# Altium integrated library Analog Devices Data Converters Analog-to-Digital Converters.IntLib: 2404 symbols (part 326 of 346)
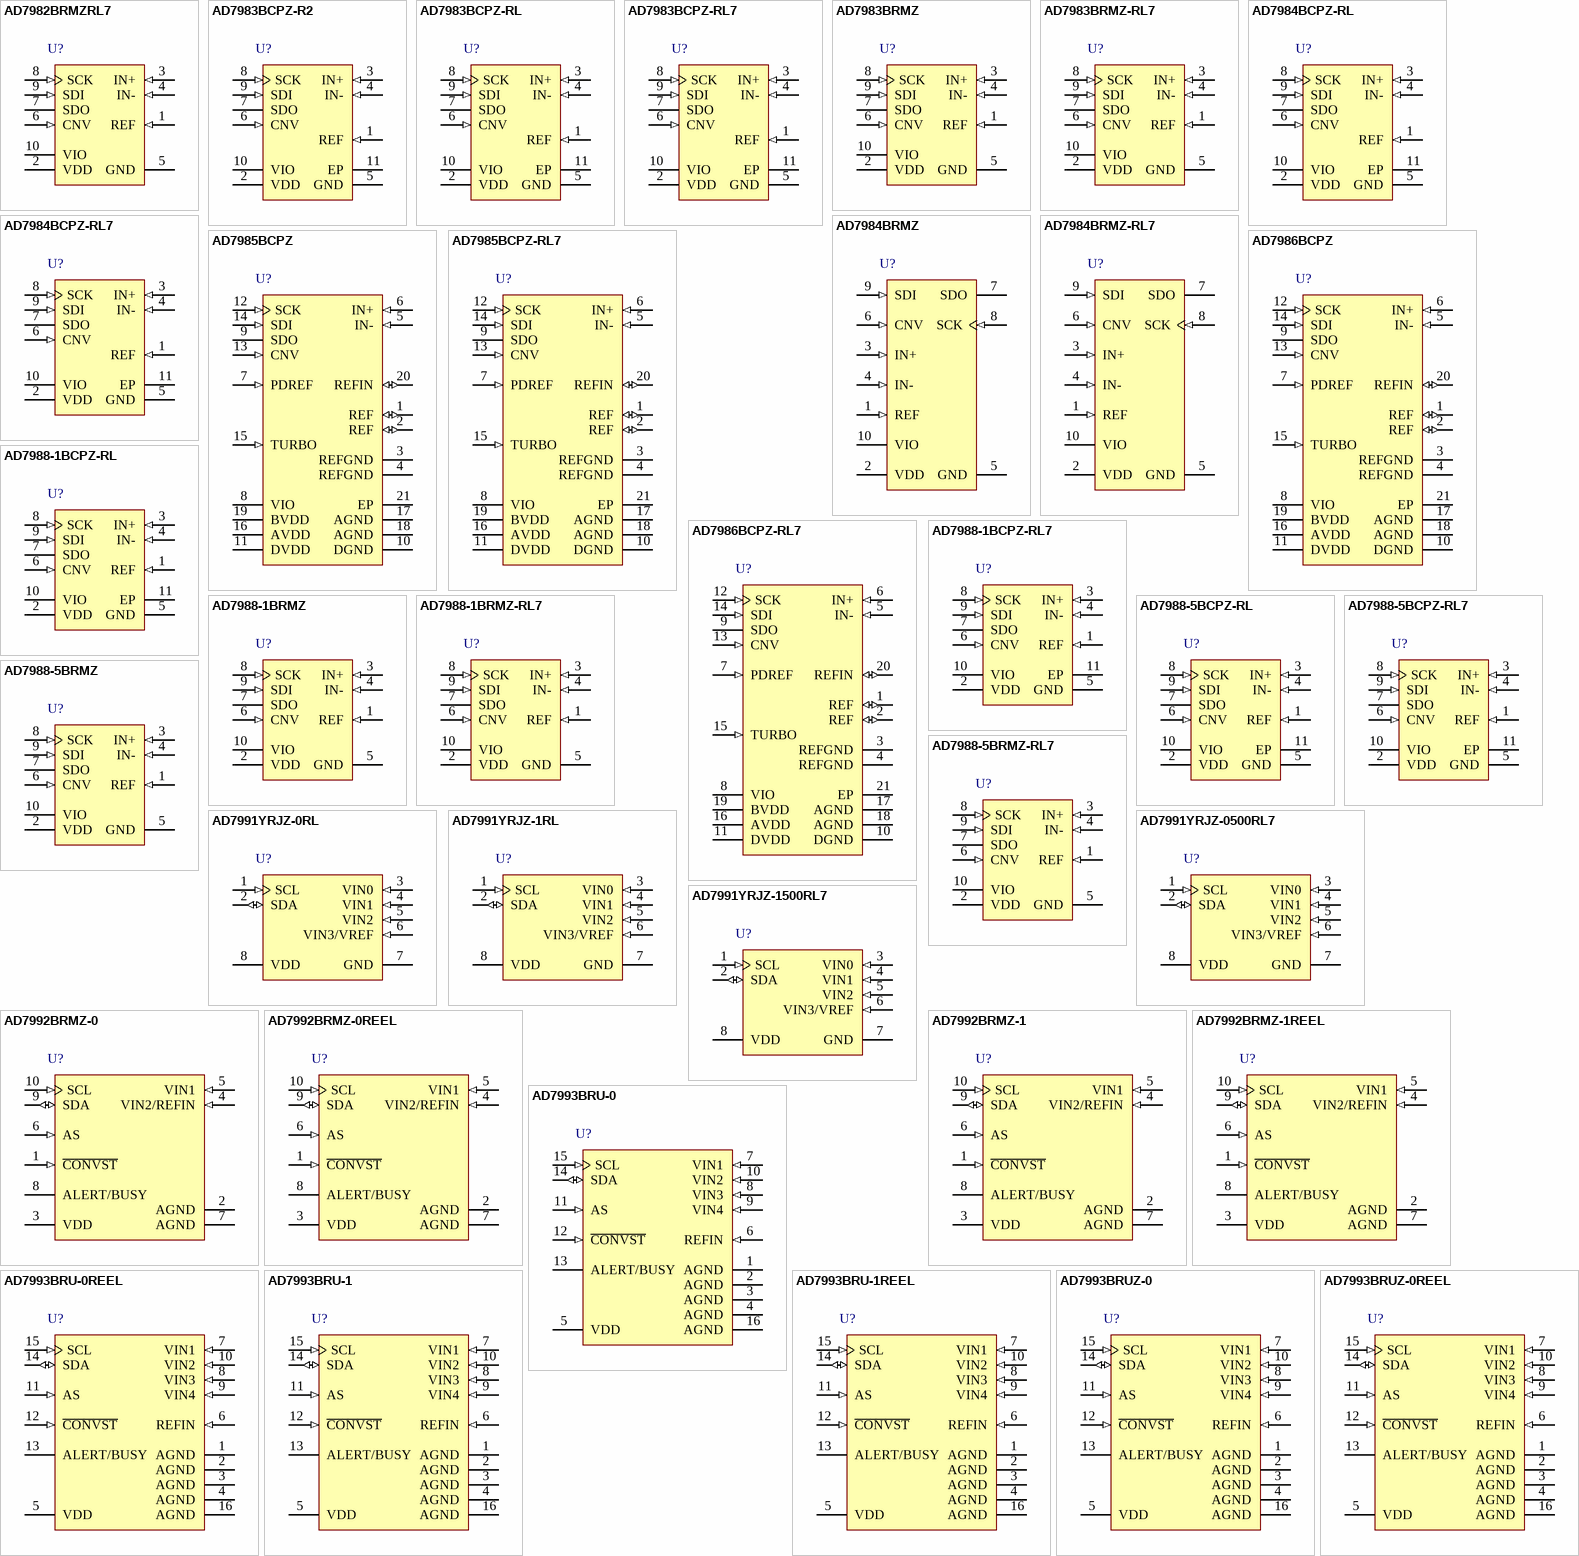
[diagram p429: symbols AD7982BRMZRL7 to AD7993BRUZ-0REEL]

## AD7992BRMZ-1REEL
designator U?
Dual 12-Bit Analog-to-Digital Converter with I2C / Ser 2-Wire, Serial Interface, 79KSPS, -40 to +125 degC, RM-10, Pb-Free, Reel; Generic Part Number: AD7992; Manufacturer: Analog Devices; PartNumber: AD7992BRMZ-1REEL; Resolution (Bits): 12; Channels: 2; Throughput Rate (SPS): 79K; DatasheetVersion: Rev.0; PackageVersion: May-2005; PackageReference: RM-10; PackageDescription: 10-Lead Mini Small Outline Package [MSOP]; Supplier 1: Digi-Key; Supplier Part Number 1: AD7992BRMZ-1REEL-ND; Supplier 2: Newark; Supplier Part Number 2: 59K6096; Supplier 3: Mouser; Supplier Part Number 3: 584-AD7992BRMZ-1R; Interface: I2C/Ser 2-Wire, Ser; RoHS: Y; Packing: Reel; Mounting Technology: Surface Mount; ComponentLink1Description: Manufacturer URL; ComponentLink1URL: http://www.analog.com/en/index.html; ComponentLink2Description: Datasheet; ComponentLink2URL: http://www.analog.com/static/imported-files/data_sheets/AD7992.pdf; ComponentLink3Description: Package Specification; ComponentLink3URL: http://www.analog.com/static/imported-files/packages/PKG_PDF/MSOP%28RM%29/RM_10.pdf; ComponentLink4Description: Product URL; ComponentLink4URL: http://www.analog.com/en/analog-to-digital-converters/ad-converters/ad7992/products/product.html
footprint RM-10_N (TSSOP, 10-Leads, Body 3x3mm, Pitch 0.5mm, IPC Medium Density)
footprint RM-10_L (TSSOP, 10-Leads, Body 3x3mm, Pitch 0.5mm, IPC High Density)
footprint RM-10_M (TSSOP, 10-Leads, Body 3x3mm, Pitch 0.5mm, IPC Low Density)
pins: 1 ~{CONVST} (in) "Logic Input Signal. Convert start signal. This is an edge-triggered logic input. The rising edge of this signal powers up the part. The power up time for the part is 1 us. The falling edge of C\O\N\V\S\T\ places the (See Datasheet)", 2 AGND (power) "Analog Ground. Ground reference point for all circuitry on the AD7992. All analog input signals should be referred to this GND voltage.", 3 VDD (power) "Power Supply Input. The VDD range for the AD7992 is from 2.7 V to 5.5 V.", 4 VIN2/REFIN (in) "Analog Input 2/Voltage Reference Input. In single-channel mode, this pin becomes the reference voltage input; an external reference should be applied at this pin. The external reference input range is 1.2 V to VDD. A 0.1 uF (See Datasheet)", 5 VIN1 (in) "Analog Input 1. Single-ended analog input channel. The input range is 0 V to REFIN.", 6 AS (in) "Logic Input. Address select input that selects one of three I2C addresses for the AD7992, as shown in Table 6.", 7 AGND (power) "Analog Ground. Ground reference point for all circuitry on the AD7992. All analog input signals should be referred to this GND voltage.", 8 ALERT/BUSY (oc) "Digital Output. Selectable as an ALERT or BUSY output function. When configured as an ALERT, this pin acts as an out-of-range indicator and, if enabled, becomes active when the conversion result violates the DATAHIGH or (See Datasheet)", 9 SDA (io) "Digital I/O. Serial bus bidirectional data. Open-drain output. An external pull-up resistor is required.", 10 SCL (in) "Digital Input. Serial bus clock. Open-drain output. An external pull-up resistor is required."

## AD7993BRU-0
designator U?
Quad 10-Bit Analog-to-Digital Converter with I2C / Serial 2-Wire, Serial Interface, 188KSPS, -40 to +125 degC, RU-16, Tube; Generic Part Number: AD7993; Manufacturer: Analog Devices; PartNumber: AD7993BRU-0; Resolution (Bits): 10; Channels: 4; Throughput Rate (SPS): 188K; Interface: I2C/Ser 2-Wire, Ser; DatasheetVersion: Rev.0; PackageVersion: Nov-2002; PackageReference: RU-16; PackageDescription: 16-Lead Thin Shrink Small Outline Package [TSSOP]; Supplier 1: Digi-Key; Supplier Part Number 1: AD7993BRU-0-ND; Supplier 2: Newark; Supplier Part Number 2: 59K6097; Supplier 3: Mouser; Supplier Part Number 3: 584-AD7993BRU-0; RoHS: N; Packing: Tube; Mounting Technology: Surface Mount; Code_JEDEC: MO-153-AB; ComponentLink1Description: Manufacturer URL; ComponentLink1URL: http://www.analog.com/en/index.html; ComponentLink2Description: Datasheet; ComponentLink2URL: http://www.analog.com/static/imported-files/data_sheets/AD7993_7994.pdf; ComponentLink3Description: Package Specification; ComponentLink3URL: http://www.analog.com/static/imported-files/packages/36244347913743854010197452789RU16.pdf; ComponentLink4Description: Product URL; ComponentLink4URL: http://www.analog.com/en/analog-to-digital-converters/ad-converters/ad7993/products/product.html
footprint RU-16_N (TSOP, 16-Leads, Body 5x4.4mm, Pitch 0.65mm, IPC Medium Density)
footprint RU-16_L (TSOP, 16-Leads, Body 5x4.4mm, Pitch 0.65mm, IPC High Density)
footprint RU-16_M (TSOP, 16-Leads, Body 5x4.4mm, Pitch 0.65mm, IPC Low Density)
pins: 1 AGND (power) "Analog Ground. Ground reference point for all circuitry on the AD7993/AD7994. All analog input signals should be referred to this AGND voltage.", 2 AGND (power) "Analog Ground. Ground reference point for all circuitry on the AD7993/AD7994. All analog input signals should be referred to this AGND voltage.", 3 AGND (power) "Analog Ground. Ground reference point for all circuitry on the AD7993/AD7994. All analog input signals should be referred to this AGND voltage.", 4 AGND (power) "Analog Ground. Ground reference point for all circuitry on the AD7993/AD7994. All analog input signals should be referred to this AGND voltage.", 5 VDD (power) "Power Supply Input. The VDD range for the AD7993/AD7994 is from 2.7 V to 5.5 V.", 6 REFIN (in) "Voltage Reference Input. The external reference for the AD7993/AD7994 should be applied to this input pin. The voltage range for the external reference is 1.2 V to VDD. A 0.1 uF and 1 uF capacitor should be placed between (See Datasheet)", 7 VIN1 (in) "Analog Input 1. Single-ended analog input channel. The input range is 0 V to REFIN.", 8 VIN3 (in) "Analog Input 3. Single-ended analog input channel. The input range is 0 V to REFIN.", 9 VIN4 (in) "Analog Input 4. Single-ended analog input channel. The input range is 0 V to REFIN.", 10 VIN2 (in) "Analog Input 2. Single-ended analog input channel. The input range is 0 V to REFIN.", 11 AS (in) "Logic Input. Address select input that selects one of three I2C addresses for the AD7993/AD7994, as shown in Table 6. The device address depends on the voltage applied to this pin.", 12 ~{CONVST} (in) "Logic Input Signal/Convert Start Signal. This is an edge-triggered logic input. The rising edge of this signal powers up the part. The power-up time for the part is 1 us. The falling edge of C\O\N\V\S\T\ places the (See Datasheet)", 13 ALERT/BUSY (oc) "Digital Output, Selectable as an ALERT or BUSY Output Function. When configured as an ALERT, this pin acts as an out-of-range indicator and, if enabled, becomes active when the conversion result violates the DATAHIGH or (See Datasheet)", 14 SDA (io) "Digital I/O. Serial bus bidirectional data. Open-drain output. External pull-up resistor required.", 15 SCL (in) "Digital Input. Serial bus clock. External pull-up resistor required.", 16 AGND (power) "Analog Ground. Ground reference point for all circuitry on the AD7993/AD7994. All analog input signals should be referred to this AGND voltage."

## AD7993BRU-0REEL
designator U?
Quad 10-Bit Analog-to-Digital Converter with I2C / Serial 2-Wire, Serial Interface, 188KSPS, -40 to +125 degC, RU-16, Reel; Generic Part Number: AD7993; Manufacturer: Analog Devices; PartNumber: AD7993BRU-0REEL; Resolution (Bits): 10; Channels: 4; Throughput Rate (SPS): 188K; Interface: I2C/Ser 2-Wire, Ser; DatasheetVersion: Rev.0; PackageVersion: Nov-2002; PackageReference: RU-16; PackageDescription: 16-Lead Thin Shrink Small Outline Package [TSSOP]; Supplier 1: Digi-Key; Supplier Part Number 1: AD7993BRU-0REEL-ND; Supplier 2: Mouser; Supplier Part Number 2: 584-AD7993BRU-0R; RoHS: N; Packing: Reel; Mounting Technology: Surface Mount; Code_JEDEC: MO-153-AB; ComponentLink1Description: Manufacturer URL; ComponentLink1URL: http://www.analog.com/en/index.html; ComponentLink2Description: Datasheet; ComponentLink2URL: http://www.analog.com/static/imported-files/data_sheets/AD7993_7994.pdf; ComponentLink3Description: Package Specification; ComponentLink3URL: http://www.analog.com/static/imported-files/packages/36244347913743854010197452789RU16.pdf; ComponentLink4Description: Product URL; ComponentLink4URL: http://www.analog.com/en/analog-to-digital-converters/ad-converters/ad7993/products/product.html
footprint RU-16_N (TSOP, 16-Leads, Body 5x4.4mm, Pitch 0.65mm, IPC Medium Density)
footprint RU-16_L (TSOP, 16-Leads, Body 5x4.4mm, Pitch 0.65mm, IPC High Density)
footprint RU-16_M (TSOP, 16-Leads, Body 5x4.4mm, Pitch 0.65mm, IPC Low Density)
pins: 1 AGND (power) "Analog Ground. Ground reference point for all circuitry on the AD7993/AD7994. All analog input signals should be referred to this AGND voltage.", 2 AGND (power) "Analog Ground. Ground reference point for all circuitry on the AD7993/AD7994. All analog input signals should be referred to this AGND voltage.", 3 AGND (power) "Analog Ground. Ground reference point for all circuitry on the AD7993/AD7994. All analog input signals should be referred to this AGND voltage.", 4 AGND (power) "Analog Ground. Ground reference point for all circuitry on the AD7993/AD7994. All analog input signals should be referred to this AGND voltage.", 5 VDD (power) "Power Supply Input. The VDD range for the AD7993/AD7994 is from 2.7 V to 5.5 V.", 6 REFIN (in) "Voltage Reference Input. The external reference for the AD7993/AD7994 should be applied to this input pin. The voltage range for the external reference is 1.2 V to VDD. A 0.1 uF and 1 uF capacitor should be placed between (See Datasheet)", 7 VIN1 (in) "Analog Input 1. Single-ended analog input channel. The input range is 0 V to REFIN.", 8 VIN3 (in) "Analog Input 3. Single-ended analog input channel. The input range is 0 V to REFIN.", 9 VIN4 (in) "Analog Input 4. Single-ended analog input channel. The input range is 0 V to REFIN.", 10 VIN2 (in) "Analog Input 2. Single-ended analog input channel. The input range is 0 V to REFIN.", 11 AS (in) "Logic Input. Address select input that selects one of three I2C addresses for the AD7993/AD7994, as shown in Table 6. The device address depends on the voltage applied to this pin.", 12 ~{CONVST} (in) "Logic Input Signal/Convert Start Signal. This is an edge-triggered logic input. The rising edge of this signal powers up the part. The power-up time for the part is 1 us. The falling edge of C\O\N\V\S\T\ places the (See Datasheet)", 13 ALERT/BUSY (oc) "Digital Output, Selectable as an ALERT or BUSY Output Function. When configured as an ALERT, this pin acts as an out-of-range indicator and, if enabled, becomes active when the conversion result violates the DATAHIGH or (See Datasheet)", 14 SDA (io) "Digital I/O. Serial bus bidirectional data. Open-drain output. External pull-up resistor required.", 15 SCL (in) "Digital Input. Serial bus clock. External pull-up resistor required.", 16 AGND (power) "Analog Ground. Ground reference point for all circuitry on the AD7993/AD7994. All analog input signals should be referred to this AGND voltage."

## AD7993BRU-1
designator U?
Quad 10-Bit Analog-to-Digital Converter with I2C / Serial 2-Wire, Serial Interface, 188KSPS, -40 to +125 degC, RU-16, Tube; Generic Part Number: AD7993; Manufacturer: Analog Devices; PartNumber: AD7993BRU-1; Resolution (Bits): 10; Channels: 4; Throughput Rate (SPS): 188K; Interface: I2C/Ser 2-Wire, Ser; DatasheetVersion: Rev.0; PackageVersion: Nov-2002; PackageReference: RU-16; PackageDescription: 16-Lead Thin Shrink Small Outline Package [TSSOP]; Supplier 1: Digi-Key; Supplier Part Number 1: AD7993BRU-1-ND; Supplier 2: Newark; Supplier Part Number 2: 59K6099; Supplier 3: Mouser; Supplier Part Number 3: 584-AD7993BRU-1; RoHS: N; Packing: Tube; Mounting Technology: Surface Mount; Code_JEDEC: MO-153-AB; ComponentLink1Description: Manufacturer URL; ComponentLink1URL: http://www.analog.com/en/index.html; ComponentLink2Description: Datasheet; ComponentLink2URL: http://www.analog.com/static/imported-files/data_sheets/AD7993_7994.pdf; ComponentLink3Description: Package Specification; ComponentLink3URL: http://www.analog.com/static/imported-files/packages/36244347913743854010197452789RU16.pdf; ComponentLink4Description: Product URL; ComponentLink4URL: http://www.analog.com/en/analog-to-digital-converters/ad-converters/ad7993/products/product.html
footprint RU-16_N (TSOP, 16-Leads, Body 5x4.4mm, Pitch 0.65mm, IPC Medium Density)
footprint RU-16_L (TSOP, 16-Leads, Body 5x4.4mm, Pitch 0.65mm, IPC High Density)
footprint RU-16_M (TSOP, 16-Leads, Body 5x4.4mm, Pitch 0.65mm, IPC Low Density)
pins: 1 AGND (power) "Analog Ground. Ground reference point for all circuitry on the AD7993/AD7994. All analog input signals should be referred to this AGND voltage.", 2 AGND (power) "Analog Ground. Ground reference point for all circuitry on the AD7993/AD7994. All analog input signals should be referred to this AGND voltage.", 3 AGND (power) "Analog Ground. Ground reference point for all circuitry on the AD7993/AD7994. All analog input signals should be referred to this AGND voltage.", 4 AGND (power) "Analog Ground. Ground reference point for all circuitry on the AD7993/AD7994. All analog input signals should be referred to this AGND voltage.", 5 VDD (power) "Power Supply Input. The VDD range for the AD7993/AD7994 is from 2.7 V to 5.5 V.", 6 REFIN (in) "Voltage Reference Input. The external reference for the AD7993/AD7994 should be applied to this input pin. The voltage range for the external reference is 1.2 V to VDD. A 0.1 uF and 1 uF capacitor should be placed between (See Datasheet)", 7 VIN1 (in) "Analog Input 1. Single-ended analog input channel. The input range is 0 V to REFIN.", 8 VIN3 (in) "Analog Input 3. Single-ended analog input channel. The input range is 0 V to REFIN.", 9 VIN4 (in) "Analog Input 4. Single-ended analog input channel. The input range is 0 V to REFIN.", 10 VIN2 (in) "Analog Input 2. Single-ended analog input channel. The input range is 0 V to REFIN.", 11 AS (in) "Logic Input. Address select input that selects one of three I2C addresses for the AD7993/AD7994, as shown in Table 6. The device address depends on the voltage applied to this pin.", 12 ~{CONVST} (in) "Logic Input Signal/Convert Start Signal. This is an edge-triggered logic input. The rising edge of this signal powers up the part. The power-up time for the part is 1 us. The falling edge of C\O\N\V\S\T\ places the (See Datasheet)", 13 ALERT/BUSY (oc) "Digital Output, Selectable as an ALERT or BUSY Output Function. When configured as an ALERT, this pin acts as an out-of-range indicator and, if enabled, becomes active when the conversion result violates the DATAHIGH or (See Datasheet)", 14 SDA (io) "Digital I/O. Serial bus bidirectional data. Open-drain output. External pull-up resistor required.", 15 SCL (in) "Digital Input. Serial bus clock. External pull-up resistor required.", 16 AGND (power) "Analog Ground. Ground reference point for all circuitry on the AD7993/AD7994. All analog input signals should be referred to this AGND voltage."

## AD7993BRU-1REEL
designator U?
Quad 10-Bit Analog-to-Digital Converter with I2C / Serial 2-Wire, Serial Interface, 188KSPS, -40 to +125 degC, RU-16, Reel; Generic Part Number: AD7993; Manufacturer: Analog Devices; PartNumber: AD7993BRU-1REEL; Resolution (Bits): 10; Channels: 4; Throughput Rate (SPS): 188K; Interface: I2C/Ser 2-Wire, Ser; DatasheetVersion: Rev.0; PackageVersion: Nov-2002; PackageReference: RU-16; PackageDescription: 16-Lead Thin Shrink Small Outline Package [TSSOP]; Supplier 1: Digi-Key; Supplier Part Number 1: AD7993BRU-1REEL-ND; Supplier 2: Mouser; Supplier Part Number 2: 584-AD7993BRU-1R; RoHS: N; Packing: Reel; Mounting Technology: Surface Mount; Code_JEDEC: MO-153-AB; ComponentLink1Description: Manufacturer URL; ComponentLink1URL: http://www.analog.com/en/index.html; ComponentLink2Description: Datasheet; ComponentLink2URL: http://www.analog.com/static/imported-files/data_sheets/AD7993_7994.pdf; ComponentLink3Description: Package Specification; ComponentLink3URL: http://www.analog.com/static/imported-files/packages/36244347913743854010197452789RU16.pdf; ComponentLink4Description: Product URL; ComponentLink4URL: http://www.analog.com/en/analog-to-digital-converters/ad-converters/ad7993/products/product.html
footprint RU-16_N (TSOP, 16-Leads, Body 5x4.4mm, Pitch 0.65mm, IPC Medium Density)
footprint RU-16_L (TSOP, 16-Leads, Body 5x4.4mm, Pitch 0.65mm, IPC High Density)
footprint RU-16_M (TSOP, 16-Leads, Body 5x4.4mm, Pitch 0.65mm, IPC Low Density)
pins: 1 AGND (power) "Analog Ground. Ground reference point for all circuitry on the AD7993/AD7994. All analog input signals should be referred to this AGND voltage.", 2 AGND (power) "Analog Ground. Ground reference point for all circuitry on the AD7993/AD7994. All analog input signals should be referred to this AGND voltage.", 3 AGND (power) "Analog Ground. Ground reference point for all circuitry on the AD7993/AD7994. All analog input signals should be referred to this AGND voltage.", 4 AGND (power) "Analog Ground. Ground reference point for all circuitry on the AD7993/AD7994. All analog input signals should be referred to this AGND voltage.", 5 VDD (power) "Power Supply Input. The VDD range for the AD7993/AD7994 is from 2.7 V to 5.5 V.", 6 REFIN (in) "Voltage Reference Input. The external reference for the AD7993/AD7994 should be applied to this input pin. The voltage range for the external reference is 1.2 V to VDD. A 0.1 uF and 1 uF capacitor should be placed between (See Datasheet)", 7 VIN1 (in) "Analog Input 1. Single-ended analog input channel. The input range is 0 V to REFIN.", 8 VIN3 (in) "Analog Input 3. Single-ended analog input channel. The input range is 0 V to REFIN.", 9 VIN4 (in) "Analog Input 4. Single-ended analog input channel. The input range is 0 V to REFIN.", 10 VIN2 (in) "Analog Input 2. Single-ended analog input channel. The input range is 0 V to REFIN.", 11 AS (in) "Logic Input. Address select input that selects one of three I2C addresses for the AD7993/AD7994, as shown in Table 6. The device address depends on the voltage applied to this pin.", 12 ~{CONVST} (in) "Logic Input Signal/Convert Start Signal. This is an edge-triggered logic input. The rising edge of this signal powers up the part. The power-up time for the part is 1 us. The falling edge of C\O\N\V\S\T\ places the (See Datasheet)", 13 ALERT/BUSY (oc) "Digital Output, Selectable as an ALERT or BUSY Output Function. When configured as an ALERT, this pin acts as an out-of-range indicator and, if enabled, becomes active when the conversion result violates the DATAHIGH or (See Datasheet)", 14 SDA (io) "Digital I/O. Serial bus bidirectional data. Open-drain output. External pull-up resistor required.", 15 SCL (in) "Digital Input. Serial bus clock. External pull-up resistor required.", 16 AGND (power) "Analog Ground. Ground reference point for all circuitry on the AD7993/AD7994. All analog input signals should be referred to this AGND voltage."

## AD7993BRUZ-0
designator U?
Quad 10-Bit Analog-to-Digital Converter with I2C / Serial 2-Wire, Serial Interface, 188KSPS, -40 to +125 degC, RU-16, Pb-Free, Tube; Generic Part Number: AD7993; Manufacturer: Analog Devices; PartNumber: AD7993BRUZ-0; Resolution (Bits): 10; Channels: 4; Throughput Rate (SPS): 188K; Interface: I2C/Ser 2-Wire, Ser; DatasheetVersion: Rev.0; PackageVersion: Nov-2002; PackageReference: RU-16; PackageDescription: 16-Lead Thin Shrink Small Outline Package [TSSOP]; Supplier 1: Digi-Key; Supplier Part Number 1: AD7993BRUZ-0-ND; Supplier 2: Farnell; Supplier Part Number 2: 1078309; Supplier 3: Newark; Supplier Part Number 3: 31M4424; Supplier 4: Newark; Supplier Part Number 4: 59K6101; Supplier 5: Mouser; Supplier Part Number 5: 584-AD7993BRUZ-0; RoHS: Y; Packing: Tube; Mounting Technology: Surface Mount; Code_JEDEC: MO-153-AB; ComponentLink1Description: Manufacturer URL; ComponentLink1URL: http://www.analog.com/en/index.html; ComponentLink2Description: Datasheet; ComponentLink2URL: http://www.analog.com/static/imported-files/data_sheets/AD7993_7994.pdf; ComponentLink3Description: Package Specification; ComponentLink3URL: http://www.analog.com/static/imported-files/packages/36244347913743854010197452789RU16.pdf; ComponentLink4Description: Product URL; ComponentLink4URL: http://www.analog.com/en/analog-to-digital-converters/ad-converters/ad7993/products/product.html
footprint RU-16_N (TSOP, 16-Leads, Body 5x4.4mm, Pitch 0.65mm, IPC Medium Density)
footprint RU-16_L (TSOP, 16-Leads, Body 5x4.4mm, Pitch 0.65mm, IPC High Density)
footprint RU-16_M (TSOP, 16-Leads, Body 5x4.4mm, Pitch 0.65mm, IPC Low Density)
pins: 1 AGND (power) "Analog Ground. Ground reference point for all circuitry on the AD7993/AD7994. All analog input signals should be referred to this AGND voltage.", 2 AGND (power) "Analog Ground. Ground reference point for all circuitry on the AD7993/AD7994. All analog input signals should be referred to this AGND voltage.", 3 AGND (power) "Analog Ground. Ground reference point for all circuitry on the AD7993/AD7994. All analog input signals should be referred to this AGND voltage.", 4 AGND (power) "Analog Ground. Ground reference point for all circuitry on the AD7993/AD7994. All analog input signals should be referred to this AGND voltage.", 5 VDD (power) "Power Supply Input. The VDD range for the AD7993/AD7994 is from 2.7 V to 5.5 V.", 6 REFIN (in) "Voltage Reference Input. The external reference for the AD7993/AD7994 should be applied to this input pin. The voltage range for the external reference is 1.2 V to VDD. A 0.1 uF and 1 uF capacitor should be placed between (See Datasheet)", 7 VIN1 (in) "Analog Input 1. Single-ended analog input channel. The input range is 0 V to REFIN.", 8 VIN3 (in) "Analog Input 3. Single-ended analog input channel. The input range is 0 V to REFIN.", 9 VIN4 (in) "Analog Input 4. Single-ended analog input channel. The input range is 0 V to REFIN.", 10 VIN2 (in) "Analog Input 2. Single-ended analog input channel. The input range is 0 V to REFIN.", 11 AS (in) "Logic Input. Address select input that selects one of three I2C addresses for the AD7993/AD7994, as shown in Table 6. The device address depends on the voltage applied to this pin.", 12 ~{CONVST} (in) "Logic Input Signal/Convert Start Signal. This is an edge-triggered logic input. The rising edge of this signal powers up the part. The power-up time for the part is 1 us. The falling edge of C\O\N\V\S\T\ places the (See Datasheet)", 13 ALERT/BUSY (oc) "Digital Output, Selectable as an ALERT or BUSY Output Function. When configured as an ALERT, this pin acts as an out-of-range indicator and, if enabled, becomes active when the conversion result violates the DATAHIGH or (See Datasheet)", 14 SDA (io) "Digital I/O. Serial bus bidirectional data. Open-drain output. External pull-up resistor required.", 15 SCL (in) "Digital Input. Serial bus clock. External pull-up resistor required.", 16 AGND (power) "Analog Ground. Ground reference point for all circuitry on the AD7993/AD7994. All analog input signals should be referred to this AGND voltage."